# EAGLE library part FXOS8700CQ (library jseng)
FSOS8700CQ compass/accelerometer
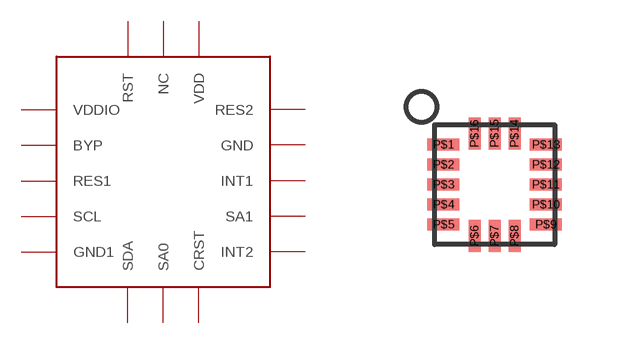
[diagram p12: symbol with the pads of FSOS8700CQ_PKG; footprint FSOS8700CQ_PKG]

Designator prefix -

## FXOS8700CQ  [FSOS8700CQ_PKG]
P$1  VDDIO
P$2  BYP
P$3  RES1
P$4  SCL
P$5  GND1
P$6  SDA
P$7  SA0
P$8  CRST
P$9  INT2
P$10  SA1
P$11  INT1
P$12  GND
P$13  RES2
P$14  VDD
P$15  NC
P$16  RST

## Footprint FSOS8700CQ_PKG (pad centres in mm)
smd 0.8 x 0.3: P$1 -1.28,1; P$2 -1.28,0.5; P$3 -1.28,0; P$4 -1.28,-0.5; P$5 -1.28,-1; P$9 1.28,-1; P$10 1.28,-0.5; P$11 1.28,0; P$12 1.28,0.5; P$13 1.28,1
smd 0.3 x 0.8: P$6 -0.5,-1.28; P$7 0,-1.28; P$8 0.5,-1.28; P$14 0.5,1.28; P$15 0,1.28; P$16 -0.5,1.28